# EAGLE library part TLC272CD (library Z_GessIOMod)
LinCMOS. PRECISION DUAL OPERATIONAL AMPLIFIERS
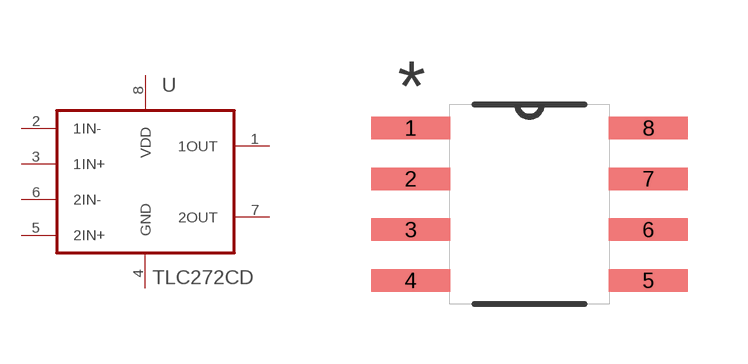
[diagram p13: symbol with the pads of SOIC127P600X175-8N; footprint SOIC127P600X175-8N]

Designator prefix U

## TLC272CD (MPN: TLC272CD; OC_FARNELL: 1106022; OC_NEWARK: 67K1262; PACKAGE: SOIC-8; SUPPLIER: Texas Instruments)  [SOIC127P600X175-8N]
1  1OUT  out
2  1IN-  in
3  1IN+  in
4  GND  pas
5  2IN+  in
6  2IN-  in
7  2OUT  out
8  VDD  pwr

## Footprint SOIC127P600X175-8N (pad centres in mm)
smd 1.981 x 0.559: 1 -2.972,1.905; 2 -2.972,0.635; 3 -2.972,-0.635; 4 -2.972,-1.905; 5 2.972,-1.905; 6 2.972,-0.635; 7 2.972,0.635; 8 2.972,1.905